# EAGLE library part TM23_RJ45 (library OpenMotics)
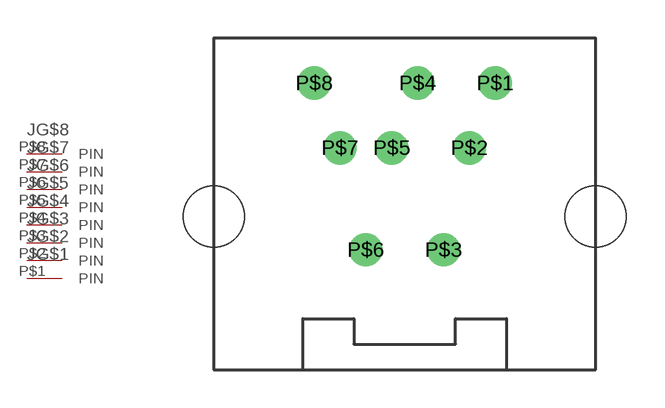
[diagram p22: symbol with the pads of TM23_RJ45; footprint TM23_RJ45]

Designator prefix J; gates G$1=PIN G$2=PIN G$3=PIN G$4=PIN G$5=PIN G$6=PIN G$7=PIN G$8=PIN

## TM23_RJ45  [TM23_RJ45]
P$1  G$1:PIN
P$2  G$2:PIN
P$3  G$3:PIN
P$4  G$4:PIN
P$5  G$5:PIN
P$6  G$6:PIN
P$7  G$7:PIN
P$8  G$8:PIN

## Footprint TM23_RJ45 (pad centres in mm)
drill 0.8 round: P$1 3.556,11.24; P$2 2.54,8.7; P$3 1.524,4.7; P$4 0.508,11.24; P$5 -0.508,8.7; P$6 -1.524,4.7; P$7 -2.54,8.7; P$8 -3.556,11.24
hole 2.4 at -7.5,6
hole 2.4 at 7.5,6